# Altium integrated library WE_WR-TBL_Rising Cage System_3.81 mm_rev15b.IntLib: 25 symbols
Pins are listed as number, name and electrical type; pins without a type are passive.

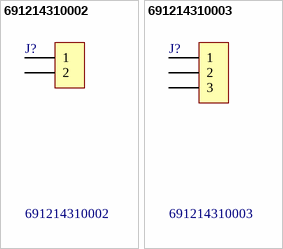
[diagram p0: symbols 691214310002 to 691214310003]

## 691214310002
designator J?
WR-TBL Horizontal Entry Modular,Serie 2143 - 3.81 mm with Rising Cage Clamp; Manufacturer: Würth Elektronik eiSos GmbH; ComponentLink1 Description: Manufacturer; ComponentLink2 Description: Datasheet; NoPins: 2; Created Date: 14 Novenber 2013; partNo: 691214310002; ComponentLink1URL: http://www.we-online.com; ComponentLink2URL: http://katalog.we-online.de/em/datasheet/6912143100xx.pdf; Created by: Karrer Zheng
footprint 691214310002 (3,81mm - Horizontal wire entry - Rising cage clamp - 02p)
pins: 1, 2

## 691214310003
designator J?
WR-TBL Horizontal Entry Modular,Serie 2143 - 3.81 mm with Rising Cage Clamp; Manufacturer: Würth Elektronik eiSos GmbH; ComponentLink1 Description: Manufacturer; ComponentLink2 Description: Datasheet; NoPins: 3; Created Date: 14 Novenber 2013; partNo: 691214310003; ComponentLink1URL: http://www.we-online.com; ComponentLink2URL: http://katalog.we-online.de/em/datasheet/6912143100xx.pdf; Created by: Karrer Zheng
footprint 691214310003 (3,81mm - Horizontal wire entry - Rising cage clamp - 03p)
pins: 1, 2, 3


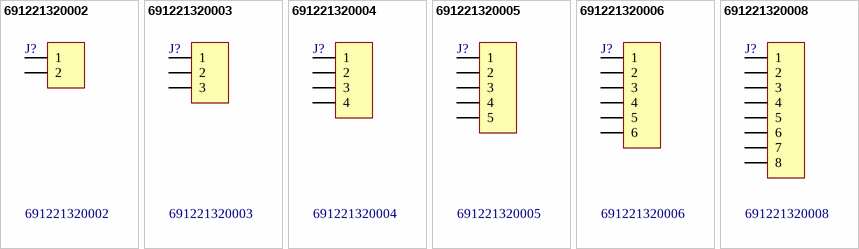
[diagram p1: symbols 691221320002 to 691221320008]

## 691221320002
designator J?
WR-TBL 45° Entry Modular with Rising Cage Clamp,Serie 2213 - 3.81 mm; Manufacturer: Würth Elektronik eiSos GmbH; ComponentLink1 Description: Manufacturer; ComponentLink2 Description: Datasheet; NoPins: 2; Created Date: 19 Novenber 2013; partNo: 691221320002; ComponentLink1URL: http://www.we-online.com; ComponentLink2URL: http://katalog.we-online.de/em/datasheet/6912213200xx.pdf; Created by: Karrer Zheng
footprint 691221320002 (3,81mm - modular - green - 55° wire entry - Cage clamp - 02p)
pins: 1, 2

## 691221320003
designator J?
WR-TBL 45° Entry Modular with Rising Cage Clamp,Serie 2213 - 3.81 mm; Manufacturer: Würth Elektronik eiSos GmbH; ComponentLink1 Description: Manufacturer; ComponentLink2 Description: Datasheet; NoPins: 3; Created Date: 19 Novenber 2013; partNo: 691221320003; ComponentLink1URL: http://www.we-online.com; ComponentLink2URL: http://katalog.we-online.de/em/datasheet/6912213200xx.pdf; Created by: Karrer Zheng
footprint 691221320003 (3,81mm - modular - green - 55° wire entry - Cage clamp - 03p)
pins: 1, 2, 3

## 691221320004
designator J?
WR-TBL 45° Entry Modular with Rising Cage Clamp,Serie 2213 - 3.81 mm; Manufacturer: Würth Elektronik eiSos GmbH; ComponentLink1 Description: Manufacturer; ComponentLink2 Description: Datasheet; NoPins: 4; Created Date: 19 Novenber 2013; partNo: 691221320004; ComponentLink1URL: http://www.we-online.com; ComponentLink2URL: http://katalog.we-online.de/em/datasheet/6912213200xx.pdf; Created by: Karrer Zheng
footprint 691221320004 (3,81mm - modular - green - 55° wire entry - Cage clamp - 04p)
pins: 1, 2, 3, 4

## 691221320005
designator J?
WR-TBL 45° Entry Modular with Rising Cage Clamp,Serie 2213 - 3.81 mm; Manufacturer: Würth Elektronik eiSos GmbH; ComponentLink1 Description: Manufacturer; ComponentLink2 Description: Datasheet; NoPins: 5; Created Date: 19 Novenber 2013; partNo: 691221320005; ComponentLink1URL: http://www.we-online.com; ComponentLink2URL: http://katalog.we-online.de/em/datasheet/6912213200xx.pdf; Created by: Karrer Zheng
footprint 691221320005 (3,81mm - modular - green - 55° wire entry - Cage clamp - 05p)
pins: 1, 2, 3, 4, 5

## 691221320006
designator J?
WR-TBL 45° Entry Modular with Rising Cage Clamp,Serie 2213 - 3.81 mm; Manufacturer: Würth Elektronik eiSos GmbH; ComponentLink1 Description: Manufacturer; ComponentLink2 Description: Datasheet; NoPins: 6; Created Date: 19 Novenber 2013; partNo: 691221320006; ComponentLink1URL: http://www.we-online.com; ComponentLink2URL: http://katalog.we-online.de/em/datasheet/6912213200xx.pdf; Created by: Karrer Zheng
footprint 691221320006 (3,81mm - modular - green - 55° wire entry - Cage clamp - 06p)
pins: 1, 2, 3, 4, 5, 6

## 691221320008
designator J?
WR-TBL 45° Entry Modular with Rising Cage Clamp,Serie 2213 - 3.81 mm; Manufacturer: Würth Elektronik eiSos GmbH; ComponentLink1 Description: Manufacturer; ComponentLink2 Description: Datasheet; NoPins: 8; Created Date: 19 Novenber 2013; partNo: 691221320008; ComponentLink1URL: http://www.we-online.com; ComponentLink2URL: http://katalog.we-online.de/em/datasheet/6912213200xx.pdf; Created by: Karrer Zheng
footprint 691221320008 (3,81mm - modular - green - 55° wire entry - Cage clamp - 08p)
pins: 1, 2, 3, 4, 5, 6, 7, 8


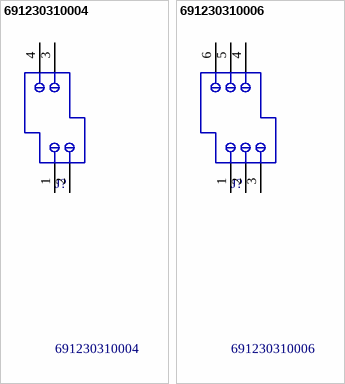
[diagram p2: symbols 691230310004 to 691230310006]

## 691230310004
designator J?
WR-TBL Double Level Horizontal Entry Modular,Serie 2303 - 3.81 mm with Rising Clamp; Manufacturer: Würth Elektronik eiSos GmbH; ComponentLink1 Description: Manufacturer; ComponentLink2 Description: Datasheet; NoPins: 4; Created Date: 18 Novenber 2013; partNo: 691230310004; ComponentLink1URL: http://www.we-online.com; ComponentLink2URL: http://katalog.we-online.de/em/datasheet/6912303100xx.pdf; Created by: Karrer Zheng
footprint 691230310004 (3,81mm - modular - 2 rows - Right - horizontal entry with rising cage clamp - 04p)
pins: 1, 2, 3, 4

## 691230310006
designator J?
WR-TBL Double Level Horizontal Entry Modular,Serie 2303 - 3.81 mm with Rising Clamp; Manufacturer: Würth Elektronik eiSos GmbH; ComponentLink1 Description: Manufacturer; ComponentLink2 Description: Datasheet; NoPins: 6; Created Date: 18 Novenber 2013; partNo: 691230310006; ComponentLink1URL: http://www.we-online.com; ComponentLink2URL: http://katalog.we-online.de/em/datasheet/6912303100xx.pdf; Created by: Karrer Zheng
footprint 691230310006 (3,81mm - modular - 2 rows - Right - horizontal entry with rising cage clamp - 06p)
pins: 1, 2, 3, 4, 5, 6


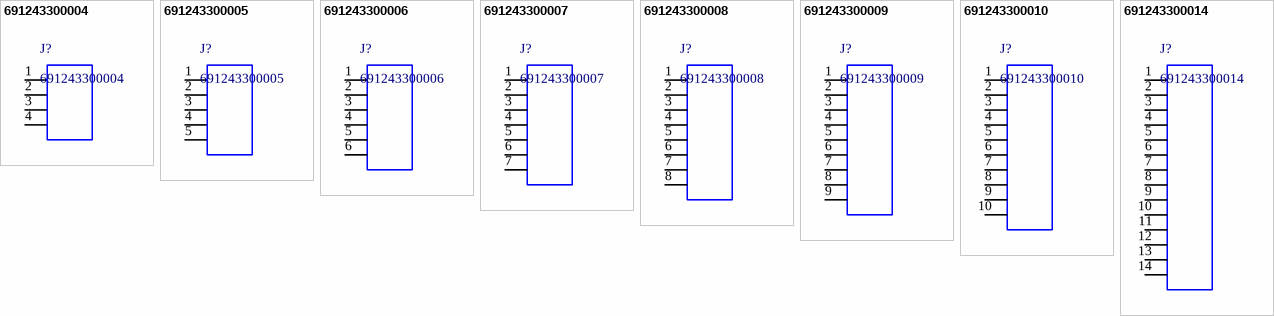
[diagram p3: symbols 691243300004 to 691243300014]

## 691243300004
designator J?
WR-TBL Vertical Cable Entry With Rising Cage Clamp,Serie 2433 - 3.81 mm; Manufacturer: Wurth Elektronik; ComponentLink1 Description: Manufacturer; ComponentLink2 Description: Datasheet; ComponentLink1URL: http://www.we-online.de; ComponentLink2URL: http://katalog.we-online.de/em/datasheet/6912433000XX.pdf; Created by: Baojun Chen; Created Date: 9.Sep.2015; partNo: 691243300004
footprint 691243300004 (Serie 2433 - 3.81 mm _ 4 pins)
pins: 1, 2, 3, 4

## 691243300005
designator J?
WR-TBL Vertical Cable Entry With Rising Cage Clamp,Serie 2433 - 3.81 mm; Manufacturer: Wurth Elektronik; ComponentLink1 Description: Manufacturer; ComponentLink2 Description: Datasheet; ComponentLink1URL: http://www.we-online.de; ComponentLink2URL: http://katalog.we-online.de/em/datasheet/6912433000XX.pdf; Created by: Baojun Chen; Created Date: 9.Sep.2015; partNo: 691243300005
footprint 691243300005 (Serie 2433 - 3.81 mm _ 5 pins)
pins: 1, 2, 3, 4, 5

## 691243300006
designator J?
WR-TBL Vertical Cable Entry With Rising Cage Clamp,Serie 2433 - 3.81 mm; Manufacturer: Wurth Elektronik; ComponentLink1 Description: Manufacturer; ComponentLink2 Description: Datasheet; ComponentLink1URL: http://www.we-online.de; ComponentLink2URL: http://katalog.we-online.de/em/datasheet/6912433000XX.pdf; Created by: Baojun Chen; Created Date: 9.Sep.2015; partNo: 691243300006
footprint 691243300006 (Serie 2433 - 3.81 mm _ 6 pins)
pins: 1, 2, 3, 4, 5, 6

## 691243300007
designator J?
WR-TBL Vertical Cable Entry With Rising Cage Clamp,Serie 2433 - 3.81 mm; Manufacturer: Wurth Elektronik; ComponentLink1 Description: Manufacturer; ComponentLink2 Description: Datasheet; ComponentLink1URL: http://www.we-online.de; ComponentLink2URL: http://katalog.we-online.de/em/datasheet/6912433000XX.pdf; Created by: Baojun Chen; Created Date: 9.Sep.2015; partNo: 691243300007
footprint 691243300007 (Serie 2433 - 3.81 mm _ 7 pins)
pins: 1, 2, 3, 4, 5, 6, 7

## 691243300008
designator J?
WR-TBL Vertical Cable Entry With Rising Cage Clamp,Serie 2433 - 3.81 mm; Manufacturer: Wurth Elektronik; ComponentLink1 Description: Manufacturer; ComponentLink2 Description: Datasheet; ComponentLink1URL: http://www.we-online.de; ComponentLink2URL: http://katalog.we-online.de/em/datasheet/6912433000XX.pdf; Created by: Baojun Chen; Created Date: 9.Sep.2015; partNo: 691243300008
footprint 691243300008 (Serie 2433 - 3.81 mm _ 8 pins)
pins: 1, 2, 3, 4, 5, 6, 7, 8

## 691243300009
designator J?
WR-TBL Vertical Cable Entry With Rising Cage Clamp,Serie 2433 - 3.81 mm; Manufacturer: Wurth Elektronik; ComponentLink1 Description: Manufacturer; ComponentLink2 Description: Datasheet; ComponentLink1URL: http://www.we-online.de; ComponentLink2URL: http://katalog.we-online.de/em/datasheet/6912433000XX.pdf; Created by: Baojun Chen; Created Date: 9.Sep.2015; partNo: 691243300009
footprint 691243300009 (Serie 2433 - 3.81 mm _ 9 pins)
pins: 1, 2, 3, 4, 5, 6, 7, 8, 9

## 691243300010
designator J?
WR-TBL Vertical Cable Entry With Rising Cage Clamp,Serie 2433 - 3.81 mm; Manufacturer: Wurth Elektronik; ComponentLink1 Description: Manufacturer; ComponentLink2 Description: Datasheet; ComponentLink1URL: http://www.we-online.de; ComponentLink2URL: http://katalog.we-online.de/em/datasheet/6912433000XX.pdf; Created by: Baojun Chen; Created Date: 9.Sep.2015; partNo: 691243300010
footprint 691243300010 (Serie 2433 - 3.81 mm _ 10 pins)
pins: 1, 2, 3, 4, 5, 6, 7, 8, 9, 10

## 691243300014
designator J?
WR-TBL Vertical Cable Entry With Rising Cage Clamp,Serie 2433 - 3.81 mm; Manufacturer: Wurth Elektronik; ComponentLink1 Description: Manufacturer; ComponentLink2 Description: Datasheet; ComponentLink1URL: http://www.we-online.de; ComponentLink2URL: http://katalog.we-online.de/em/datasheet/6912433000XX.pdf; Created by: Baojun Chen; Created Date: 9.Sep.2015; partNo: 691243300014
footprint 691243300014 (Serie 2433 - 3.81 mm _ 14 pins)
pins: 1, 2, 3, 4, 5, 6, 7, 8, 9, 10, 11, 12, 13, 14


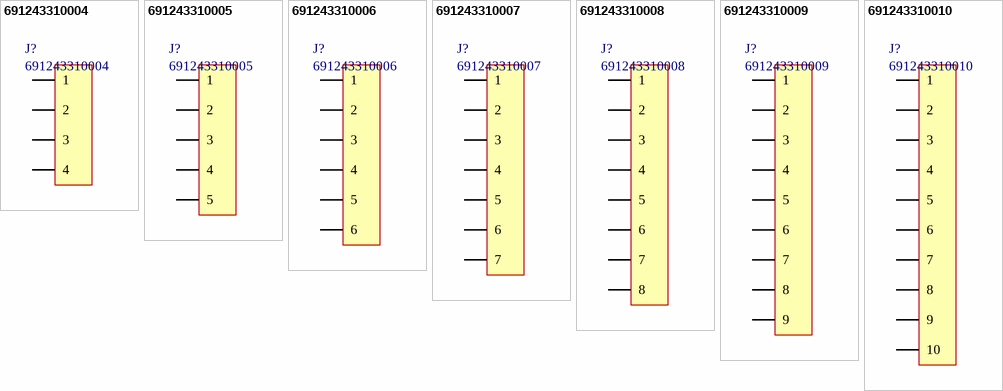
[diagram p4: symbols 691243310004 to 691243310010]

## 691243310004
designator J?
Horizontal Cable Entry with Rising Cage Clamp, Serie 2433 - 3.81mm; Manufacturer: Wurth Elektronik; ComponentLink1 Description: Manufacturer; ComponentLink2 Description: Datasheet; NoPins: 4; ComponentLink1 URL: http://www.we-online.com; ComponentLink2 URL: http://katalog.we-online.de/em/datasheet/6912433100xx.pdf; Created By: Baojun Chen; Created Date: 27.Aug.2015; PartNo: 691243310004
footprint 691243310004 (Serie 2433 - 3.81 mm _ 4 pins)
pins: 1, 2, 3, 4

## 691243310005
designator J?
Horizontal Cable Entry with Rising Cage Clamp, Serie 2433 - 3.81mm; Manufacturer: Wurth Elektronik; ComponentLink1 Description: Manufacturer; ComponentLink2 Description: Datasheet; NoPins: 5; ComponentLink1 URL: http://www.we-online.com; ComponentLink2 URL: http://katalog.we-online.de/em/datasheet/6912433100xx.pdf; Created By: Baojun Chen; Created Date: 27.Aug.2015; PartNo: 691243310005
footprint 691243310005 (Serie 2433 - 3.81 mm _ 5 pins)
pins: 1, 2, 3, 4, 5

## 691243310006
designator J?
Horizontal Cable Entry with Rising Cage Clamp, Serie 2433 - 3.81mm; Manufacturer: Wurth Elektronik; ComponentLink1 Description: Manufacturer; ComponentLink2 Description: Datasheet; NoPins: 6; ComponentLink1 URL: http://www.we-online.com; ComponentLink2 URL: http://katalog.we-online.de/em/datasheet/6912433100xx.pdf; Created By: Baojun Chen; Created Date: 27.Aug.2015; PartNo: 691243310006
footprint 691243310006 (Serie 2433 - 3.81 mm _ 6 pins)
pins: 1, 2, 3, 4, 5, 6

## 691243310007
designator J?
Horizontal Cable Entry with Rising Cage Clamp, Serie 2433 - 3.81mm; Manufacturer: Wurth Elektronik; ComponentLink1 Description: Manufacturer; ComponentLink2 Description: Datasheet; NoPins: 7; ComponentLink1 URL: http://www.we-online.com; ComponentLink2 URL: http://katalog.we-online.de/em/datasheet/6912433100xx.pdf; Created By: Baojun Chen; Created Date: 27.Aug.2015; PartNo: 691243310007
footprint 691243310007 (Serie 2433 - 3.81 mm _ 7 pins)
pins: 1, 2, 3, 4, 5, 6, 7

## 691243310008
designator J?
Horizontal Cable Entry with Rising Cage Clamp, Serie 2433 - 3.81mm; Manufacturer: Wurth Elektronik; ComponentLink1 Description: Manufacturer; ComponentLink2 Description: Datasheet; NoPins: 8; ComponentLink1 URL: http://www.we-online.com; ComponentLink2 URL: http://katalog.we-online.de/em/datasheet/6912433100xx.pdf; Created By: Baojun Chen; Created Date: 27.Aug.2015; PartNo: 691243310008
footprint 691243310008 (Serie 2433 - 3.81 mm _ 8 pins)
pins: 1, 2, 3, 4, 5, 6, 7, 8

## 691243310009
designator J?
Horizontal Cable Entry with Rising Cage Clamp, Serie 2433 - 3.81mm; Manufacturer: Wurth Elektronik; ComponentLink1 Description: Manufacturer; ComponentLink2 Description: Datasheet; NoPins: 9; ComponentLink1 URL: http://www.we-online.com; ComponentLink2 URL: http://katalog.we-online.de/em/datasheet/6912433100xx.pdf; Created By: Baojun Chen; Created Date: 27.Aug.2015; PartNo: 691243310009
footprint 691243310009 (Serie 2433 - 3.81 mm _ 9 pins)
pins: 1, 2, 3, 4, 5, 6, 7, 8, 9

## 691243310010
designator J?
Horizontal Cable Entry with Rising Cage Clamp, Serie 2433 - 3.81mm; Manufacturer: Wurth Elektronik; ComponentLink1 Description: Manufacturer; ComponentLink2 Description: Datasheet; NoPins: 10; ComponentLink1 URL: http://www.we-online.com; ComponentLink2 URL: http://katalog.we-online.de/em/datasheet/6912433100xx.pdf; Created By: Baojun Chen; Created Date: 27.Aug.2015; PartNo: 691243310010
footprint 691243310010 (Serie 2433 - 3.81 mm _ 10 pins)
pins: 1, 2, 3, 4, 5, 6, 7, 8, 9, 10